# Altium schematic symbol library IHLP4040DZER101M1A.SchLib: 1 symbol
Pins are listed as number, name and electrical type; pins without a type are passive.

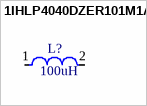
[diagram p0: symbol 1IHLP4040DZER101M1A]

## 1IHLP4040DZER101M1A
designator L?  value 100uH  (hidden comment: *)
PartNumer: IHLP4040DZER101M1A; Manufacturer: Vishay Dale; PartDescription: IHLP4040DZER101M1A; Package Type: 2 SMD; Supplier 1: Digi-Key; Supplier Part Number 1: 541-IHLP4040DZER101M1ACT-ND
footprint IHLP4040DZER101M1A
pins: 1, 2